# Altium footprint library Integrated Circuits.PcbLib: 21 footprints (part 1 of 2)
Each footprint in its own frame and in the unit in brackets; x right, y up, seen from the top. Pads: shape width x height; smd on the part's side, far side on the other; paste and mask are expansions set on the pad; w line width, h text height; cw(c..) or ccw(c..) is an arc to the next point about the centre after c.
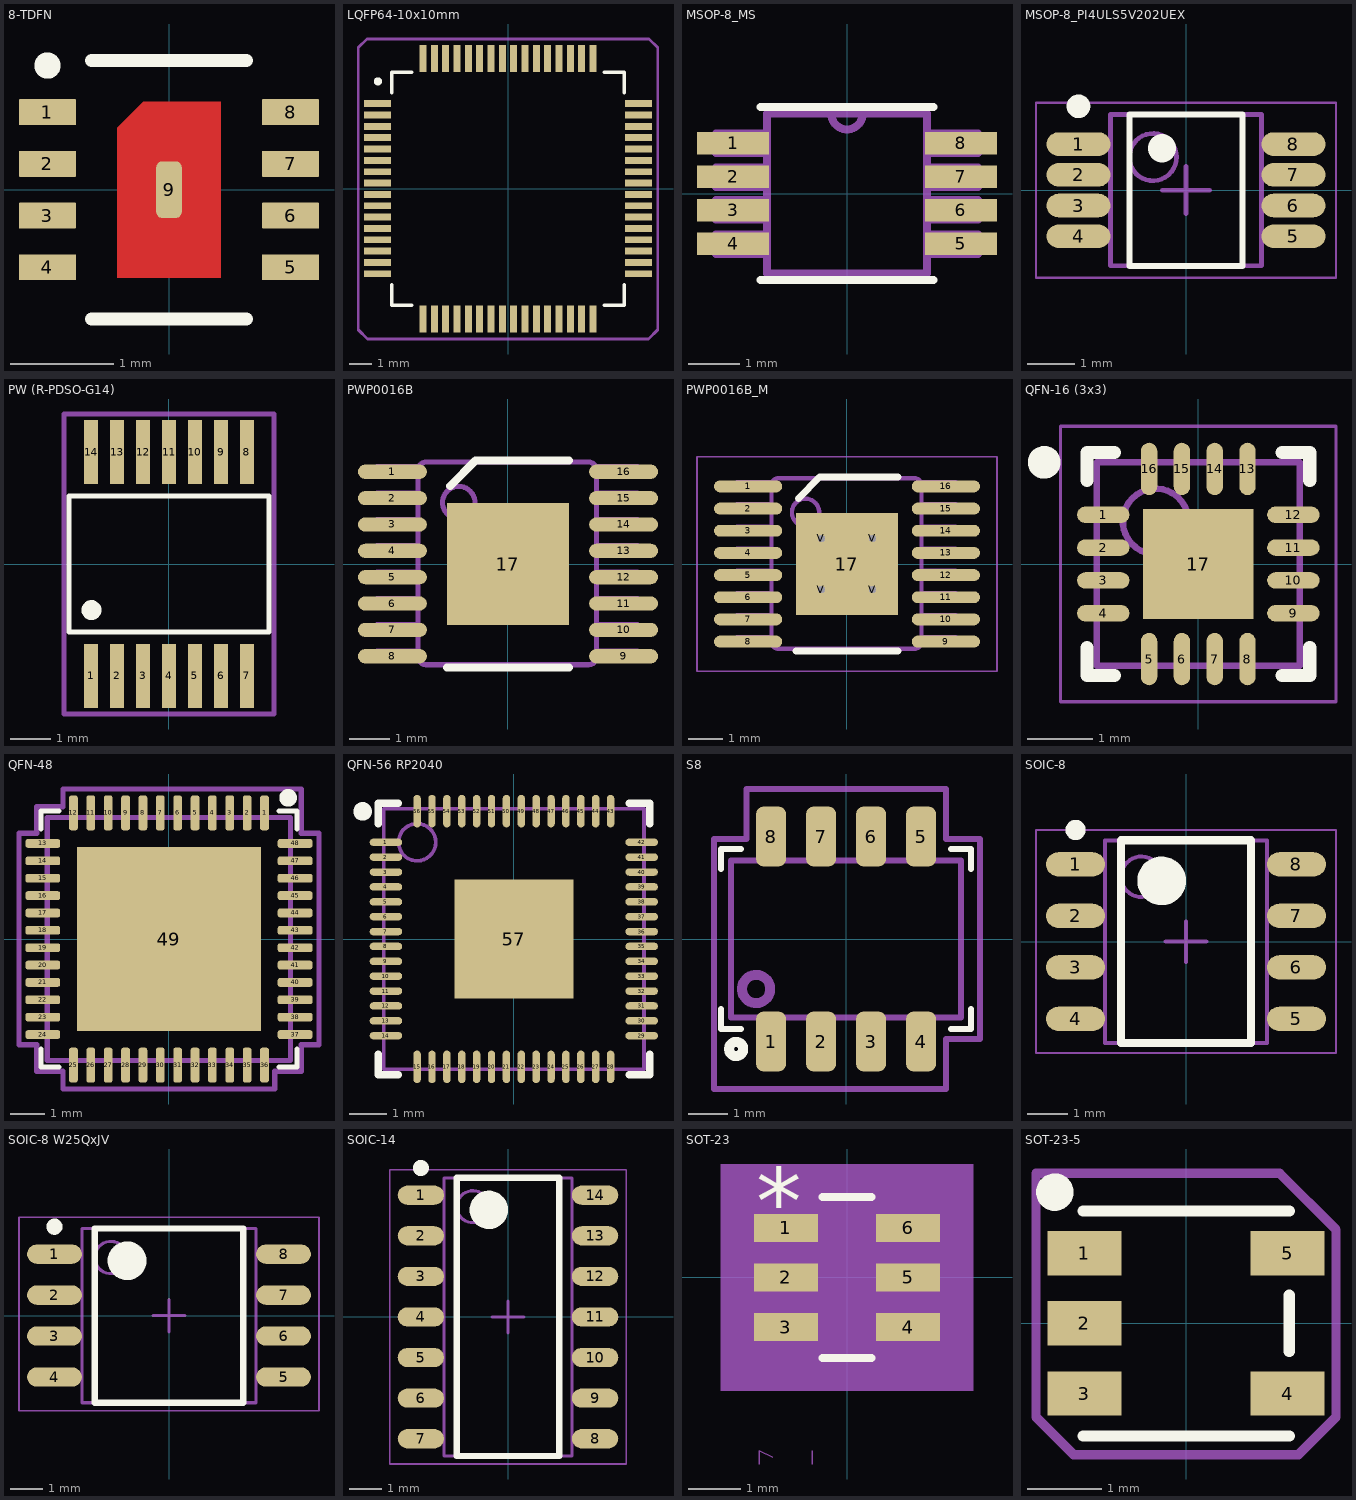
[diagram p0: the footprints below, top view; thin cyan lines are the x and y axes]

## 8-TDFN [mm] "8 Pin DFN Package (2.5x2.5)"
pads (9):
  rrect5% 0.55x0.25 smd: 1(-1.175,0.75) 2(-1.175,0.25) 3(-1.175,-0.25) 4(-1.175,-0.75) 5(1.175,-0.75) 6(1.175,-0.25) 7(1.175,0.25) 8(1.175,0.75)
  rrect50% 0.25x0.55 smd: 9(0,0)
Top Layer:
  region: 0.5,-0.85 -0.5,-0.85 -0.5,0.6 -0.25,0.85 0.5,0.85
Top Overlay:
  circle w0.128: c-1.175,1.2 r0.064
  lines w0.127: -0.75,-1.25 0.75,-1.25 ; -0.75,1.25 0.75,1.25
3D body "User Library-DFN8 2_5x2_5mm.STEP": height 1.02, standoff 0, extent -1.26,-1.25 1.26,1.25

## LQFP64-10x10mm [mm]
pads (64):
  rect 1.194x0.305 smd paste+0 mask+0.102: 1(-5.75,3.75) 2(-5.75,3.25) 3(-5.75,2.75) 4(-5.75,2.25) 5(-5.75,1.75) 6(-5.75,1.25) 7(-5.75,0.75) 8(-5.75,0.25) 9(-5.75,-0.25) 10(-5.75,-0.75) 11(-5.75,-1.25) 12(-5.75,-1.75) 13(-5.75,-2.25) 14(-5.75,-2.75) 15(-5.75,-3.25) 16(-5.75,-3.75) 33(5.75,-3.75) 34(5.75,-3.25) 35(5.75,-2.75) 36(5.75,-2.25) 37(5.75,-1.75) 38(5.75,-1.25) 39(5.75,-0.75) 40(5.75,-0.25) 41(5.75,0.25) 42(5.75,0.75) 43(5.75,1.25) 44(5.75,1.75) 45(5.75,2.25) 46(5.75,2.75) 47(5.75,3.25) 48(5.75,3.75)
  rect 0.305x1.194 smd paste+0 mask+0.102: 17(-3.75,-5.75) 18(-3.25,-5.75) 19(-2.75,-5.75) 20(-2.25,-5.75) 21(-1.75,-5.75) 22(-1.25,-5.75) 23(-0.75,-5.75) 24(-0.25,-5.75) 25(0.25,-5.75) 26(0.75,-5.75) 27(1.25,-5.75) 28(1.75,-5.75) 29(2.25,-5.75) 30(2.75,-5.75) 31(3.25,-5.75) 32(3.75,-5.75) 49(3.75,5.75) 50(3.25,5.75) 51(2.75,5.75) 52(2.25,5.75) 53(1.75,5.75) 54(1.25,5.75) 55(0.75,5.75) 56(0.25,5.75) 57(-0.25,5.75) 58(-0.75,5.75) 59(-1.25,5.75) 60(-1.75,5.75) 61(-2.25,5.75) 62(-2.75,5.75) 63(-3.25,5.75) 64(-3.75,5.75)
Top Overlay:
  circle w0.254: c-5.738,4.735 r0.051
  lines w0.152: -5.131,-4.234 -5.131,-5.131 -4.234,-5.131 ; -5.131,4.234 -5.131,5.131 -4.234,5.131 ; 4.234,-5.131 5.131,-5.131 5.131,-4.234 ; 4.234,5.131 5.131,5.131 5.131,4.234
Boundary:
  lines w0.127: -6.604,-6.223 -6.604,6.223 -6.223,6.604 6.223,6.604 6.604,6.223 6.604,-6.223 6.198,-6.629 -6.198,-6.629 -6.604,-6.223
3D body "LQFP64-10x10mm.step": height 1.6, standoff 0, extent -5.997,-5.997 5.997,5.997
3D body: height 0.25, standoff 0, extent 0,0 0.254,0.254

## MSOP-8_MS [mil]
pads (8):
  rect 55x17 smd: 1(-87,38.39) 2(-87,12.8) 3(-87,-12.8) 4(-87,-38.39) 5(87,-38.39) 6(87,-12.8) 7(87,12.8) 8(87,38.39)
Top Overlay:
  lines w6: -66,-66 66,-66 ; -66,66 66,66
Mechanical 13:
  lines w6: -12,61 ccw(c0,61) 12,61 ; -12,61 12,61 ; -12,61 -61,61 -61,-61 61,-61 61,61 12,61 ; -100,-46 -100,-31 -61,-31 -61,-46 -100,-46 ; -100,-20 -100,-5 -61,-5 -61,-20 -100,-20 ; -100,5 -100,20 -61,20 -61,5 -100,5 ; -100,31 -100,46 -61,46 -61,31 -100,31 ; 61,-46 61,-31 100,-31 100,-46 61,-46 ; 61,-20 61,-5 100,-5 100,-20 61,-20 ; 61,5 61,20 100,20 100,5 61,5 ; 61,31 61,46 100,46 100,31 61,31

## MSOP-8_PI4ULS5V202UEX [mm] "TSOP, 8-Leads, Body 3.00x3.00mm, Pitch 0.65mm, IPC Medium Density"
height 1.1
pads (8):
  oval 1.35x0.5 smd: 1(-2.275,0.975) 2(-2.275,0.325) 3(-2.275,-0.325) 4(-2.275,-0.975) 5(2.275,-0.975) 6(2.275,-0.325) 7(2.275,0.325) 8(2.275,0.975)
Top Overlay:
  circle w0.25: c-2.275,1.775 r0.125
  lines w0.127: -1.2,-1.6 1.2,-1.6 1.2,1.6 -1.2,1.6 -1.2,-1.6
  lines w0.6: -0.508,0.888 ccw(c-0.808,0.889) -0.508,0.889
Mechanical 13:
  circle w0.1: c-0.7,0.7 r0.5
  lines w0.1: -1.6,-1.6 1.6,-1.6 1.6,1.6 -1.6,1.6 -1.6,-1.6
Mechanical 15:
  lines w0.05: -3.175,-1.85 3.175,-1.85 3.175,1.85 -3.175,1.85 -3.175,-1.85
  lines w0.1: -0.5,0 0.5,0 ; 0,-0.5 0,0.5
3D body "User Library-MSOP8.STEP": height 1.06, standoff -0.04, extent -2.469,-1.55 2.469,1.55

## PW (R-PDSO-G14) [mm] "TI 14-TSSOP Package"
pads (14):
  rect 0.35x1.6 smd: 1(-1.95,-2.8) 2(-1.3,-2.8) 3(-0.65,-2.8) 4(0,-2.8) 5(0.65,-2.8) 6(1.3,-2.8) 7(1.95,-2.8) 8(1.95,2.8) 9(1.3,2.8) 10(0.65,2.8) 11(0,2.8) 12(-0.65,2.8) 13(-1.3,2.8) 14(-1.95,2.8)
Top Overlay:
  circle w0.25: c-1.939,-1.152 r0.125
  lines w0.127: -2.5,-1.7 2.5,-1.7 2.5,1.7 -2.5,1.7 -2.5,-1.7
Mechanical 15:
  lines w0.127: -2.625,-3.75 -2.625,3.75 2.625,3.75 2.625,-3.75 -2.625,-3.75
3D body "User Library-TPS61500PWPR.step": height 1.2, standoff 0, extent -2.55,-3.2 2.55,3.2

## PWP0016B [mm]
pads (17):
  oval 1.7x0.35 smd paste-0.102 mask+0.051: 1(-2.85,2.275) 2(-2.85,1.625) 3(-2.85,0.975) 4(-2.85,0.325) 5(-2.85,-0.325) 6(-2.85,-0.975) 7(-2.85,-1.625) 8(-2.85,-2.275) 9(2.85,-2.275) 10(2.85,-1.625) 11(2.85,-0.975) 12(2.85,-0.325) 13(2.85,0.325) 14(2.85,0.975) 15(2.85,1.625) 16(2.85,2.275)
  rect 3x3 smd paste-0.102 mask+0.051: 17(0,0)
Top Overlay:
  lines w0.2: -1.5,-2.55 1.5,-2.55 ; -1.425,1.925 -0.8,2.55 1.5,2.55
Top Paste:
  region: 0.1,-0.1 0.1,-1.4 1.4,-1.4 1.4,-0.1
  region: -0.1,-1.4 -0.1,-0.1 -1.4,-0.1 -1.4,-1.4
  region: -0.1,0.1 -0.1,1.4 -1.4,1.4 -1.4,0.1
  region: 0.1,1.4 0.1,0.1 1.4,0.1 1.4,1.4
Mechanical 13:
  drawing of 202 lines, arcs and shapes, not listed
Mechanical 15:
  lines w0.1: -0.5,-0.65 0.5,-0.65 ; 0,-1.15 0,-0.15
3D body "PWP0016B.STEP": height 1, standoff 0, extent -3.159,-2.505 3.262,2.495
3D body: height 0.25, standoff 0, extent 0,0 0.254,0.254

## PWP0016B_M [mm]
pads (21):
  oval 2x0.35 smd paste-0.102 mask+0.051: 1(-2.9,2.275) 2(-2.9,1.625) 3(-2.9,0.975) 4(-2.9,0.325) 5(-2.9,-0.325) 6(-2.9,-0.975) 7(-2.9,-1.625) 8(-2.9,-2.275) 9(2.9,-2.275) 10(2.9,-1.625) 11(2.9,-0.975) 12(2.9,-0.325) 13(2.9,0.325) 14(2.9,0.975) 15(2.9,1.625) 16(2.9,2.275)
  rect 3x3 smd paste-0.102 mask+0.051: 17(0,0)
  round 0.4 hole 0.203 mask+0.051: V(-0.75,-0.75) V(-0.75,0.75) V(0.75,-0.75) V(0.75,0.75)
Top Overlay:
  lines w0.2: -1.5,-2.55 1.5,-2.55 ; -1.425,1.925 -0.8,2.55 1.5,2.55
Top Paste:
  region: 0.1,1.4 0.1,0.1 1.4,0.1 1.4,1.4
  region: -0.1,0.1 -0.1,1.4 -1.4,1.4 -1.4,0.1
  region: -0.1,-1.4 -0.1,-0.1 -1.4,-0.1 -1.4,-1.4
  region: 0.1,-0.1 0.1,-1.4 1.4,-1.4 1.4,-0.1
Mechanical 13:
  drawing of 202 lines, arcs and shapes, not listed
  text ".Designator" at -1.85,-1.135 h1.27
Mechanical 15:
  lines w0.05: -4.4,-3.15 4.4,-3.15 4.4,3.15 -4.4,3.15 -4.4,-3.15
  lines w0.1: -0.5,-0.65 0.5,-0.65 ; 0,-1.15 0,-0.15
3D body: height 0.25, standoff 0, extent 0,0 0.254,0.254

## QFN-16 (3x3) [mm] "QFN, 16-Leads, Body 3.00x3.00mm, Pitch 0.50mm, Thermal Pad 1.68x1.68mm, IPC Medium Density"
height 1
pads (17):
  oval 0.8x0.25 smd: 1(-1.45,0.75) 2(-1.45,0.25) 3(-1.45,-0.25) 4(-1.45,-0.75) 9(1.45,-0.75) 10(1.45,-0.25) 11(1.45,0.25) 12(1.45,0.75)
  oval 0.25x0.8 smd: 5(-0.75,-1.45) 6(-0.25,-1.45) 7(0.25,-1.45) 8(0.75,-1.45) 13(0.75,1.45) 14(0.25,1.45) 15(-0.25,1.45) 16(-0.75,1.45)
  rect 1.68x1.68 smd: 17(0,0)
Top Overlay:
  circle w0.25: c-2.35,1.55 r0.125
  lines w0.2: -1.7,-1.275 -1.7,-1.7 -1.275,-1.7 ; -1.7,1.275 -1.7,1.7 -1.275,1.7 ; 1.275,-1.7 1.7,-1.7 1.7,-1.275 ; 1.275,1.7 1.7,1.7 1.7,1.275
Mechanical 13:
  circle w0.1: c-0.65,0.65 r0.5
  lines w0.1: -1.55,-1.55 -1.55,1.55 1.55,1.55 1.55,-1.55 -1.55,-1.55
Mechanical 15:
  lines w0.05: -2.1,-2.1 -2.1,2.1 2.1,2.1 2.1,-2.1 -2.1,-2.1
  lines w0.1: -0.5,0 0.5,0 ; 0,-0.5 0,0.5
3D body: height 1, standoff 0, extent -1.55,-1.55 1.55,1.55

## QFN-48 [mm] "48 pin QFN package, 7x7mm, 0.5mm pitch"
pads (49):
  rrect50% 0.25x1 smd: 1(2.75,3.63) 2(2.25,3.63) 3(1.75,3.63) 4(1.25,3.63) 5(0.75,3.63) 6(0.25,3.63) 7(-0.25,3.63) 8(-0.75,3.63) 9(-1.25,3.63) 10(-1.75,3.63) 11(-2.25,3.63) 12(-2.75,3.63) 25(-2.75,-3.63) 26(-2.25,-3.63) 27(-1.75,-3.63) 28(-1.25,-3.63) 29(-0.75,-3.63) 30(-0.25,-3.63) 31(0.25,-3.63) 32(0.75,-3.63) 33(1.25,-3.63) 34(1.75,-3.63) 35(2.25,-3.63) 36(2.75,-3.63)
  rrect50% 1x0.25 smd: 13(-3.63,2.75) 14(-3.63,2.25) 15(-3.63,1.75) 16(-3.63,1.25) 17(-3.63,0.75) 18(-3.63,0.25) 19(-3.63,-0.25) 20(-3.63,-0.75) 21(-3.63,-1.25) 22(-3.63,-1.75) 23(-3.63,-2.25) 24(-3.63,-2.75) 37(3.63,-2.75) 38(3.63,-2.25) 39(3.63,-1.75) 40(3.63,-1.25) 41(3.63,-0.75) 42(3.63,-0.25) 43(3.63,0.25) 44(3.63,0.75) 45(3.63,1.25) 46(3.63,1.75) 47(3.63,2.25) 48(3.63,2.75)
  rect 5.3x5.3 smd: 49(0,0)
Top Overlay:
  circle w0.254: c3.429,4.064 r0.127
  lines w0.152: -3.683,-3.175 -3.683,-3.683 -3.175,-3.683 ; -3.683,3.175 -3.683,3.683 -3.175,3.683 ; 3.175,-3.683 3.683,-3.683 3.683,-3.175 ; 3.175,3.683 3.683,3.683 3.683,3.175
Mechanical 1:
  lines w0.152: -3.5,-3.5 3.5,-3.5 3.5,3.5 -3.5,3.5 -3.5,-3.5
Boundary:
  lines w0.152: -4.316,-3.048 -4.316,3.048 -4.191,3.048 -3.81,3.048 -3.81,3.81 -3.048,3.81 -3.048,4.318 1.651,4.318 3.81,4.318 3.81,3.81 3.81,3.048 4.318,3.048 4.318,-2.159 4.318,-3.048 3.81,-3.048 3.81,-3.81 3.048,-3.81 3.048,-4.318 -3.048,-4.318 -3.048,-3.81 -3.81,-3.81 -3.81,-3.048 -4.316,-3.048
3D body "User Library-QFN48-1.STEP": height 0.84, standoff -0.01, extent -3.505,-3.505 3.5,3.505

## QFN-56 RP2040 [mm] "QFN, 56-Leads, Body 7.00x7.00mm, Pitch 0.40mm, Thermal Pad 3.10x3.10mm, IPC Medium Density"
height 0.9
pads (57):
  oval 0.875x0.2 smd: 1(-3.437,2.6) 2(-3.437,2.2) 3(-3.437,1.8) 4(-3.437,1.4) 5(-3.437,1) 6(-3.437,0.6) 7(-3.437,0.2) 8(-3.437,-0.2) 9(-3.437,-0.6) 10(-3.437,-1) 11(-3.437,-1.4) 12(-3.437,-1.8) 13(-3.437,-2.2) 14(-3.437,-2.6) 29(3.437,-2.6) 30(3.437,-2.2) 31(3.437,-1.8) 32(3.437,-1.4) 33(3.437,-1) 34(3.437,-0.6) 35(3.437,-0.2) 36(3.437,0.2) 37(3.437,0.6) 38(3.437,1) 39(3.437,1.4) 40(3.437,1.8) 41(3.437,2.2) 42(3.437,2.6)
  oval 0.2x0.875 smd: 15(-2.6,-3.437) 16(-2.2,-3.437) 17(-1.8,-3.437) 18(-1.4,-3.437) 19(-1,-3.437) 20(-0.6,-3.437) 21(-0.2,-3.437) 22(0.2,-3.437) 23(0.6,-3.437) 24(1,-3.437) 25(1.4,-3.437) 26(1.8,-3.437) 27(2.2,-3.437) 28(2.6,-3.437) 43(2.6,3.437) 44(2.2,3.437) 45(1.8,3.437) 46(1.4,3.437) 47(1,3.437) 48(0.6,3.437) 49(0.2,3.437) 50(-0.2,3.437) 51(-0.6,3.437) 52(-1,3.437) 53(-1.4,3.437) 54(-1.8,3.437) 55(-2.2,3.437) 56(-2.6,3.437)
  rect 3.2x3.2 smd: 57(0,0)
Top Overlay:
  circle w0.25: c-4.064,3.429 r0.125
  lines w0.2: -3.65,-3.1 -3.65,-3.65 -3.1,-3.65 ; -3.65,3.1 -3.65,3.65 -3.1,3.65 ; 3.1,-3.65 3.65,-3.65 3.65,-3.1 ; 3.1,3.65 3.65,3.65 3.65,3.1
Mechanical 1:
  circle w0.1: c-2.6,2.6 r0.5
  lines w0.1: -3.5,-3.5 3.5,-3.5 3.5,3.5 -3.5,3.5 -3.5,-3.5
3D body "User Library-RP2040_QFN56_04.STEP": height 0.85, standoff -0.05, extent -3.52,-3.52 3.52,3.52

## S8 [mil] "Linear Technologies S8"
pads (8):
  rrect50% 30x60 smd: 1(-75,-102.5) 2(-25,-102.5) 3(25,-102.5) 4(75,-102.5) 5(75,102.5) 6(25,102.5) 7(-25,102.5) 8(-75,102.5)
Top Overlay:
  circle w10: c-110,-110 r7.07
  lines w6: -125,-70 -125,-90 -105,-90 ; -125,70 -125,90 -105,90 ; 105,-90 125,-90 125,-70 ; 105,90 125,90 125,70
Mechanical 1:
  circle w10: c-90,-50 r14.14
  lines w6: -115,-78.5 115,-78.5 115,78.5 -115,78.5 -115,-78.5
Boundary:
  lines w6: -131.99,70.53 -131.99,100 -99.57,100 -99.57,150 100,150 100,100 133.77,100 133.77,3.77 133.77,-100 100,-100 100,-150 -131.88,-150 -131.88,-100 -131.88,70.53
3D body "CircuitWorks-SO-8.step": height 53.5, standoff -3.5, extent -98,-113.75 95,113.75

## SOIC-8 [mm] "SOIC, 8-Leads, Body 4.90x3.90mm, Pitch 1.27mm, IPC Medium Density"
height 1.75
pads (8):
  oval 1.45x0.6 smd: 1(-2.725,1.905) 2(-2.725,0.635) 3(-2.725,-0.635) 4(-2.725,-1.905) 5(2.725,-1.905) 6(2.725,-0.635) 7(2.725,0.635) 8(2.725,1.905)
Top Overlay:
  circle w0.25: c-2.725,2.755 r0.125
  circle w0.6: c-0.6,1.5 r0.3
  lines w0.2: -1.6,-2.5 -1.6,2.5 1.6,2.5 1.6,-2.5 -1.6,-2.5
Mechanical 13:
  circle w0.1: c-1.1,1.6 r0.5
  lines w0.1: -2,-2.5 -2,2.5 2,2.5 2,-2.5 -2,-2.5
Mechanical 15:
  lines w0.05: -3.7,-2.75 -3.7,2.75 3.7,2.75 3.7,-2.75 -3.7,-2.75
  lines w0.1: -0.5,0 0.5,0 ; 0,-0.5 0,0.5
3D body "SOIC-8.step": height 1.75, standoff 0, extent -3,-2.5 3,2.5

## SOIC-8 W25QxJV [mm] "SOIC, 8-Leads, Body 5.28x5.28mm, Pitch 1.27mm, IPC Medium Density"
height 2.16
pads (8):
  oval 1.7x0.6 smd: 1(-3.55,1.905) 2(-3.55,0.635) 3(-3.55,-0.635) 4(-3.55,-1.905) 5(3.55,-1.905) 6(3.55,-0.635) 7(3.55,0.635) 8(3.55,1.905)
Top Overlay:
  circle w0.25: c-3.55,2.755 r0.125
  circle w0.6: c-1.3,1.7 r0.3
  lines w0.2: -2.3,-2.7 -2.3,2.7 2.3,2.7 2.3,-2.7 -2.3,-2.7
Boundary:
  lines w0.05: -4.65,-2.95 -4.65,3.048 4.65,3.048 4.65,-2.95 -4.65,-2.95
Mechanical 13:
  circle w0.1: c-1.8,1.8 r0.5
  lines w0.1: -2.7,-2.7 -2.7,2.7 2.7,2.7 2.7,-2.7 -2.7,-2.7
Mechanical 15:
  lines w0.1: -0.5,0 0.5,0 ; 0,-0.5 0,0.5
3D body "W25Q128JVSIQ.STEP": height 1.95, standoff 0, extent -3.95,-2.615 3.95,2.615

## SOIC-14 [mm] "SOIC, 14-Leads, Body 8.65x3.90mm, Pitch 1.27mm, IPC Medium Density"
height 1.75
pads (14):
  oval 1.45x0.6 smd: 1(-2.725,3.81) 2(-2.725,2.54) 3(-2.725,1.27) 4(-2.725,0) 5(-2.725,-1.27) 6(-2.725,-2.54) 7(-2.725,-3.81) 8(2.725,-3.81) 9(2.725,-2.54) 10(2.725,-1.27) 11(2.725,0) 12(2.725,1.27) 13(2.725,2.54) 14(2.725,3.81)
Top Overlay:
  circle w0.25: c-2.725,4.66 r0.125
  circle w0.6: c-0.6,3.35 r0.3
  lines w0.2: -1.6,-4.35 -1.6,4.35 1.6,4.35 1.6,-4.35 -1.6,-4.35
Mechanical 13:
  circle w0.1: c-1.1,3.45 r0.5
  lines w0.1: -2,-4.35 -2,4.35 2,4.35 2,-4.35 -2,-4.35
Mechanical 15:
  lines w0.05: -3.7,-4.6 -3.7,4.6 3.7,4.6 3.7,-4.6 -3.7,-4.6
  lines w0.1: -0.5,0 0.5,0 ; 0,-0.5 0,0.5
3D body "User Library-so14-1.step": height 1.7, standoff 0, extent -3,-4.4 3,4.4

## SOT-23 [mil]
pads (6):
  rect 48x21 smd: 1(-46,37.4) 2(-46,0) 3(-46,-37.4) 4(46,-37.4) 5(46,0) 6(46,37.4)
Top Overlay:
  lines w6: -18.41,-60.5 18.41,-60.5 ; -18.41,60.5 18.41,60.5
  text "*" at -68.5,32.9 h50
Mechanical 5:
  region: 95,-85.5 95,85.5 -95,85.5 -95,-85.5
Mechanical 7:
  lines w1: -66,-140.5 -66,-130.5 -56,-135.5 ; -26,-140.5 -26,-130.5
Mechanical 13:
  lines w1: -56,-46.9 -56,-27.9 -34.5,-27.9 -34.5,-46.9 -56,-46.9 ; -56,-9.5 -56,9.5 -34.5,9.5 -34.5,-9.5 -56,-9.5 ; -56,27.9 -56,46.9 -34.5,46.9 -34.5,27.9 -56,27.9 ; -34.5,-60.5 34.5,-60.5 34.5,60.5 -34.5,60.5 -34.5,-60.5 ; 34.5,-46.9 34.5,-27.9 56,-27.9 56,-46.9 34.5,-46.9 ; 34.5,-9.5 34.5,9.5 56,9.5 56,-9.5 34.5,-9.5 ; 34.5,27.9 34.5,46.9 56,46.9 56,27.9 34.5,27.9
  text "*" at -68.5,32.9 h50
Mechanical 15:
  region: 80,-70.5 -80,-70.5 -80,70.5 80,70.5
  lines w6: -80,-70.5 -80,70.5 80,70.5 80,-70.5 -80,-70.5

## SOT-23-5 [mm]
pads (5):
  rect 1x0.6 smd paste+0: 1(-1.375,0.95) 2(-1.375,0) 3(-1.375,-0.95) 4(1.375,-0.95) 5(1.375,0.95)
Top Overlay:
  circle w0.254: c-1.778,1.778 r0.127
  lines w0.152: -1.397,-1.524 1.397,-1.524 ; -1.397,1.524 1.397,1.524 ; 1.397,-0.381 1.397,0.381
Boundary:
  lines w0.127: -2.032,-1.27 -1.524,-1.778 1.524,-1.778 2.032,-1.27 2.032,1.27 1.27,2.032 -2.032,2.032 -2.032,-1.27
3D body "DBV0005A.stp": height 1.2, standoff 0, extent -1.4,-1.45 1.4,1.45
3D body: height 0.25, standoff 0, extent 0,0 0.254,0.254